# Altium schematic symbol library SCH - MCU - SI LABS - SI LABS EFR32MG13P632F512GM51 51-PIN LGA 6P5X6P5.SchLib: 1 symbol
Pins are listed as number, name and electrical type; pins without a type are passive.

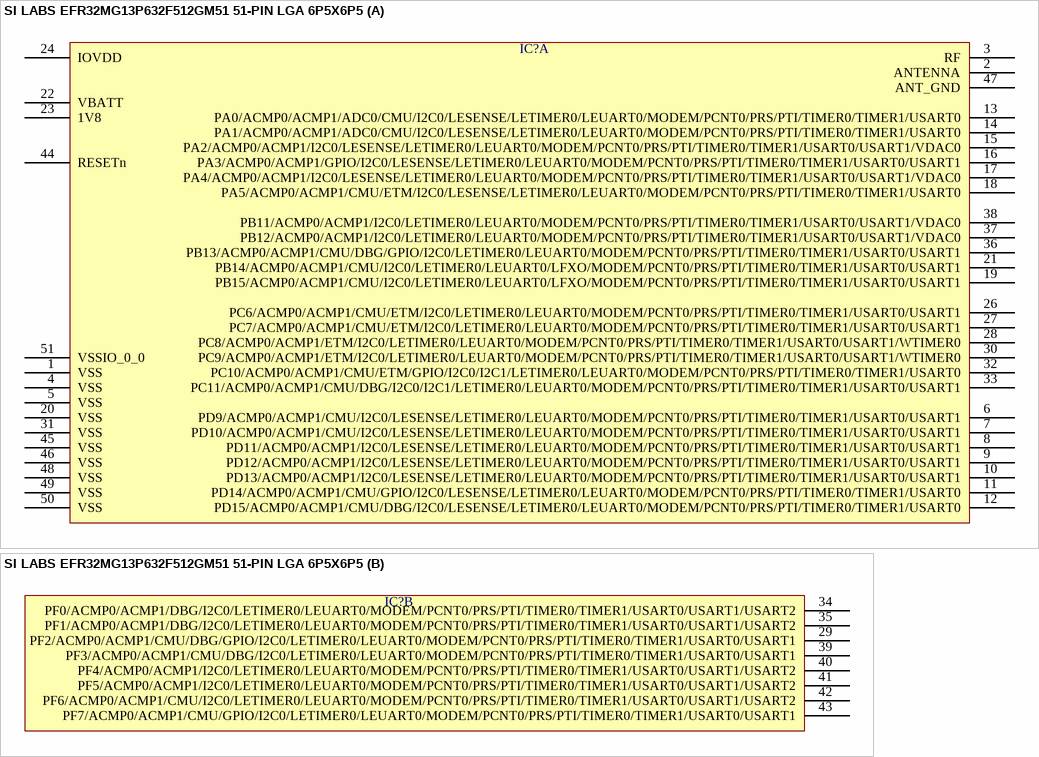
[diagram p0: symbol SI LABS EFR32MG13P632F512GM51 51-PIN LGA 6P5X6P5]

## SI LABS EFR32MG13P632F512GM51 51-PIN LGA 6P5X6P5
designator IC?  (value not drawn)
part A pins: 1 VSS, 2 ANTENNA, 3 RF, 4 VSS, 5 VSS, 6 PD9/ACMP0/ACMP1/CMU/I2C0/LESENSE/LETIMER0/LEUART0/MODEM/PCNT0/PRS/PTI/TIMER0/TIMER1/USART0/USART1, 7 PD10/ACMP0/ACMP1/CMU/I2C0/LESENSE/LETIMER0/LEUART0/MODEM/PCNT0/PRS/PTI/TIMER0/TIMER1/USART0/USART1, 8 PD11/ACMP0/ACMP1/I2C0/LESENSE/LETIMER0/LEUART0/MODEM/PCNT0/PRS/PTI/TIMER0/TIMER1/USART0/USART1, 9 PD12/ACMP0/ACMP1/I2C0/LESENSE/LETIMER0/LEUART0/MODEM/PCNT0/PRS/PTI/TIMER0/TIMER1/USART0/USART1, 10 PD13/ACMP0/ACMP1/I2C0/LESENSE/LETIMER0/LEUART0/MODEM/PCNT0/PRS/PTI/TIMER0/TIMER1/USART0/USART1, 11 PD14/ACMP0/ACMP1/CMU/GPIO/I2C0/LESENSE/LETIMER0/LEUART0/MODEM/PCNT0/PRS/PTI/TIMER0/TIMER1/USART0, 12 PD15/ACMP0/ACMP1/CMU/DBG/I2C0/LESENSE/LETIMER0/LEUART0/MODEM/PCNT0/PRS/PTI/TIMER0/TIMER1/USART0, 13 PA0/ACMP0/ACMP1/ADC0/CMU/I2C0/LESENSE/LETIMER0/LEUART0/MODEM/PCNT0/PRS/PTI/TIMER0/TIMER1/USART0, 14 PA1/ACMP0/ACMP1/ADC0/CMU/I2C0/LESENSE/LETIMER0/LEUART0/MODEM/PCNT0/PRS/PTI/TIMER0/TIMER1/USART0, 15 PA2/ACMP0/ACMP1/I2C0/LESENSE/LETIMER0/LEUART0/MODEM/PCNT0/PRS/PTI/TIMER0/TIMER1/USART0/USART1/VDAC0, 16 PA3/ACMP0/ACMP1/GPIO/I2C0/LESENSE/LETIMER0/LEUART0/MODEM/PCNT0/PRS/PTI/TIMER0/TIMER1/USART0/USART1, 17 PA4/ACMP0/ACMP1/I2C0/LESENSE/LETIMER0/LEUART0/MODEM/PCNT0/PRS/PTI/TIMER0/TIMER1/USART0/USART1/VDAC0, 18 PA5/ACMP0/ACMP1/CMU/ETM/I2C0/LESENSE/LETIMER0/LEUART0/MODEM/PCNT0/PRS/PTI/TIMER0/TIMER1/USART0, 19 PB15/ACMP0/ACMP1/CMU/I2C0/LETIMER0/LEUART0/LFXO/MODEM/PCNT0/PRS/PTI/TIMER0/TIMER1/USART0/USART1, 20 VSS, 21 PB14/ACMP0/ACMP1/CMU/I2C0/LETIMER0/LEUART0/LFXO/MODEM/PCNT0/PRS/PTI/TIMER0/TIMER1/USART0/USART1, 22 VBATT, 23 1V8, 24 IOVDD, 26 PC6/ACMP0/ACMP1/CMU/ETM/I2C0/LETIMER0/LEUART0/MODEM/PCNT0/PRS/PTI/TIMER0/TIMER1/USART0/USART1, 27 PC7/ACMP0/ACMP1/CMU/ETM/I2C0/LETIMER0/LEUART0/MODEM/PCNT0/PRS/PTI/TIMER0/TIMER1/USART0/USART1, 28 PC8/ACMP0/ACMP1/ETM/I2C0/LETIMER0/LEUART0/MODEM/PCNT0/PRS/PTI/TIMER0/TIMER1/USART0/USART1/WTIMER0, 30 PC9/ACMP0/ACMP1/ETM/I2C0/LETIMER0/LEUART0/MODEM/PCNT0/PRS/PTI/TIMER0/TIMER1/USART0/USART1/WTIMER0, 31 VSS, 32 PC10/ACMP0/ACMP1/CMU/ETM/GPIO/I2C0/I2C1/LETIMER0/LEUART0/MODEM/PCNT0/PRS/PTI/TIMER0/TIMER1/USART0, 33 PC11/ACMP0/ACMP1/CMU/DBG/I2C0/I2C1/LETIMER0/LEUART0/MODEM/PCNT0/PRS/PTI/TIMER0/TIMER1/USART0/USART1, 36 PB13/ACMP0/ACMP1/CMU/DBG/GPIO/I2C0/LETIMER0/LEUART0/MODEM/PCNT0/PRS/PTI/TIMER0/TIMER1/USART0/USART1, 37 PB12/ACMP0/ACMP1/I2C0/LETIMER0/LEUART0/MODEM/PCNT0/PRS/PTI/TIMER0/TIMER1/USART0/USART1/VDAC0, 38 PB11/ACMP0/ACMP1/I2C0/LETIMER0/LEUART0/MODEM/PCNT0/PRS/PTI/TIMER0/TIMER1/USART0/USART1/VDAC0, 44 RESETn, 45 VSS, 46 VSS, 47 ANT_GND, 48 VSS, 49 VSS, 50 VSS, 51 VSSIO_0_0
part B pins: 29 PF2/ACMP0/ACMP1/CMU/DBG/GPIO/I2C0/LETIMER0/LEUART0/MODEM/PCNT0/PRS/PTI/TIMER0/TIMER1/USART0/USART1, 34 PF0/ACMP0/ACMP1/DBG/I2C0/LETIMER0/LEUART0/MODEM/PCNT0/PRS/PTI/TIMER0/TIMER1/USART0/USART1/USART2, 35 PF1/ACMP0/ACMP1/DBG/I2C0/LETIMER0/LEUART0/MODEM/PCNT0/PRS/PTI/TIMER0/TIMER1/USART0/USART1/USART2, 39 PF3/ACMP0/ACMP1/CMU/DBG/I2C0/LETIMER0/LEUART0/MODEM/PCNT0/PRS/PTI/TIMER0/TIMER1/USART0/USART1, 40 PF4/ACMP0/ACMP1/I2C0/LETIMER0/LEUART0/MODEM/PCNT0/PRS/PTI/TIMER0/TIMER1/USART0/USART1/USART2, 41 PF5/ACMP0/ACMP1/I2C0/LETIMER0/LEUART0/MODEM/PCNT0/PRS/PTI/TIMER0/TIMER1/USART0/USART1/USART2, 42 PF6/ACMP0/ACMP1/CMU/I2C0/LETIMER0/LEUART0/MODEM/PCNT0/PRS/PTI/TIMER0/TIMER1/USART0/USART1/USART2, 43 PF7/ACMP0/ACMP1/CMU/GPIO/I2C0/LETIMER0/LEUART0/MODEM/PCNT0/PRS/PTI/TIMER0/TIMER1/USART0/USART1